# EAGLE library part NEO8MN (library custom-devices)
uBlox GNSS NEO-8MN Module (https://www.u-blox.com/en/product/neo-m8-series)
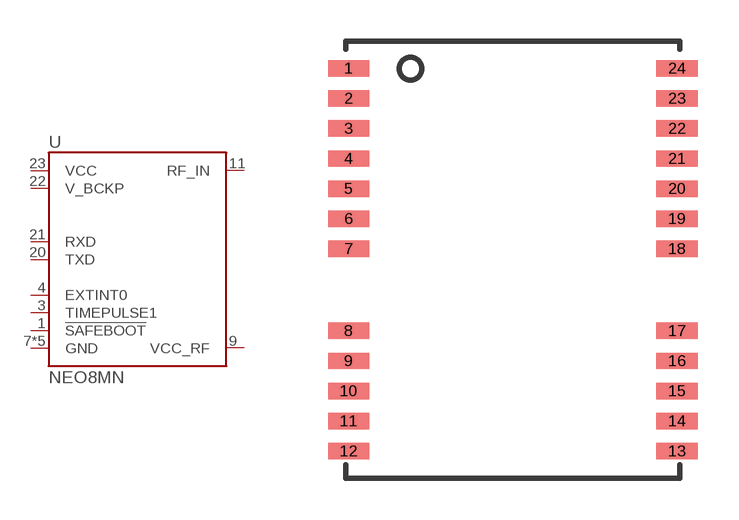
[diagram p27: symbol with the pads of NEOX; footprint NEOX]

Designator prefix U

## NEO8MN  [NEOX]
1  !SAFEBOOT
3  TIMEPULSE1
4  EXTINT0
7  GND
9  VCC_RF
10  GND
11  RF_IN
12  GND
13  GND
20  TXD
21  RXD
22  V_BCKP  pwr
23  VCC  pwr
24  GND

## Footprint NEOX (pad centres in mm)
NEO-6 Series - u-blox 6 NEO Series GALILEO-Ready GPS Modules The NEO-6 module series brings the high performance, 50-channel u-blox 6 positioning engine, to the miniature NEO form factor. The u-blox NEO-6 series modules measure 12.2 x 16.0 x 2.4 mm and are the optimal choice for applications requiring greater integration and high performance GPS in weak signal areas. http://www.u-blox.com/images/downloads/Product_Docs/LEA-6_NEO-6_MAX-6_HardwareIntegrationManual_%28GPS.G6-HW-09007%29.pdf http://www.u-blox.com/images/downloads/Product_Docs/NEO-6_DataSheet_%28GPS.G6-HW-09005%29.pdf
smd 1.5 x 0.6: 1 -6,6.8; 2 -6,5.7; 3 -6,4.6; 4 -6,3.5; 5 -6,2.4; 6 -6,1.3; 7 -6,0.2; 8 -6,-2.8; 9 -6,-3.9; 10 -6,-5; 11 -6,-6.1; 12 -6,-7.2; 13 6,-7.2; 14 6,-6.1; 15 6,-5; 16 6,-3.9; 17 6,-2.8; 18 6,0.2; 19 6,1.3; 20 6,2.4; 21 6,3.5; 22 6,4.6; 23 6,5.7; 24 6,6.8